# Altium integrated library 4N25.IntLib: 1 symbol
Pins are listed as number, name and electrical type; pins without a type are passive.

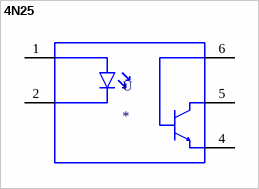
[diagram p0: symbol 4N25]

## 4N25
designator U
Optoisolator Transistor with Base Output 5000Vrms 1 Channel 6-DIP; MF: Vishay Semiconductor; MP: 4N25; Package: DIP-6 Lite-On; Value: *; Price: None; SnapEDA_Link: https://www.snapeda.com/parts/4N25/Vishay%20Semiconductor%20Opto%20Division/view-part/641454/?ref=snap; Availability: Unavailable
footprint DIP762W50P254L712H400Q6N
pins: 1 A, 2 K, 4 E, 5 C, 6 B